# Altium footprint library resistor-dil.PCBLIB: 22 footprints (part 1 of 2)
Each footprint in its own frame and in the unit in brackets; x right, y up, seen from the top. Pads: shape width x height; smd on the part's side, far side on the other; paste and mask are expansions set on the pad; w line width, h text height; cw(c..) or ccw(c..) is an arc to the next point about the centre after c.
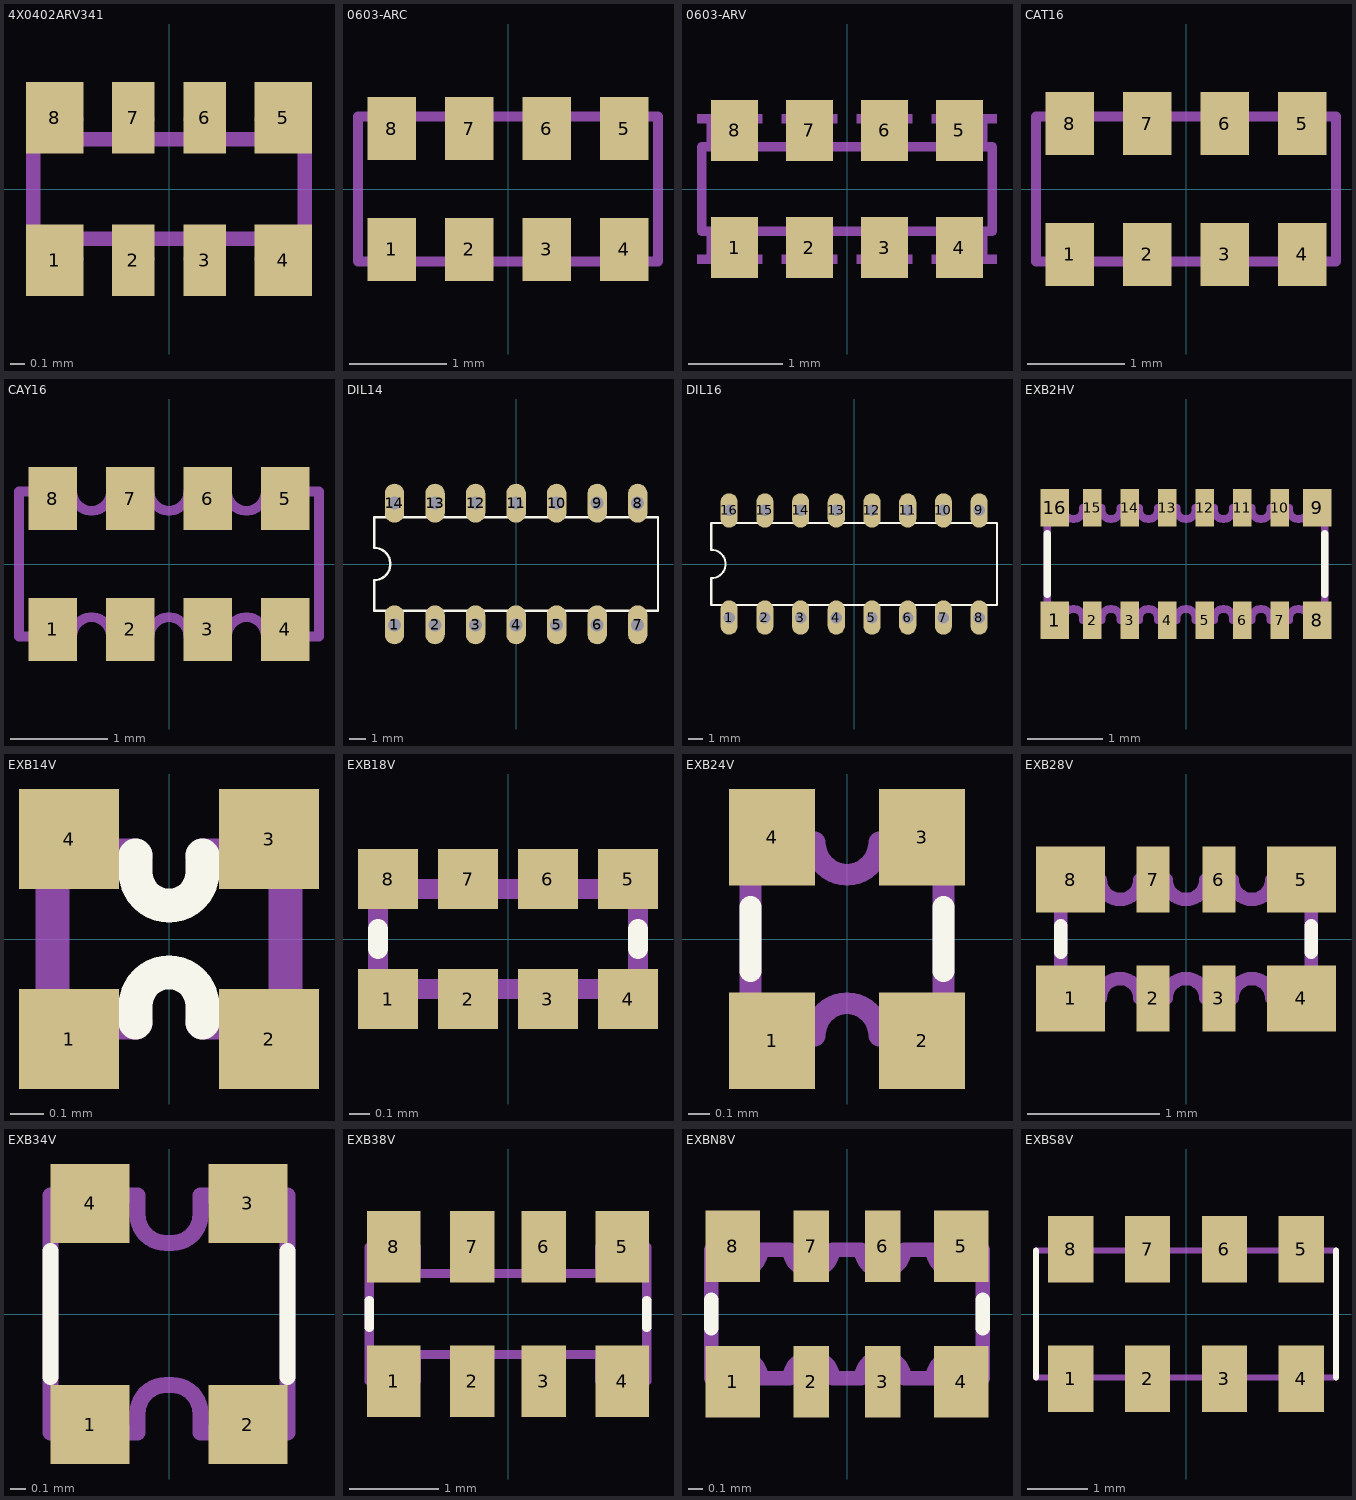
[diagram p0: the footprints below, top view; thin cyan lines are the x and y axes]

## 4X0402ARV341 [mil]
pads (8):
  rect 15.75x19.69 smd: 1(-31.5,-19.69) 4(31.5,-19.69) 5(31.5,19.69) 8(-31.5,19.69)
  rect 11.81x19.69 smd: 2(-9.84,-19.69) 3(9.84,-19.69) 6(9.84,19.69) 7(-9.84,19.69)
Mechanical 16:
  rectangle: -15.75,18.7 -3.94,19.69
  rectangle: -12.8,15.75 -6.89,18.7
  rectangle: 3.94,18.7 15.75,19.69
  rectangle: 6.89,15.75 12.8,18.7
  rectangle: 23.62,18.7 39.37,19.69
  rectangle: 26.57,15.75 32.48,18.7
  region: 39.37,-18.7 23.62,-18.7 23.62,-19.69 39.37,-19.69
  region: 32.48,-15.75 26.57,-15.75 26.57,-18.7 32.48,-18.7
  region: 15.75,-18.7 3.94,-18.7 3.94,-19.69 15.75,-19.69
  region: 12.8,-15.75 6.89,-15.75 6.89,-18.7 12.8,-18.7
  region: -3.94,-18.7 -15.75,-18.7 -15.75,-19.69 -3.94,-19.69
  region: -6.89,-15.75 -12.8,-15.75 -12.8,-18.7 -6.89,-18.7
  region: -23.62,-18.7 -39.37,-18.7 -39.37,-19.69 -23.62,-19.69
  region: -26.57,-15.75 -32.48,-15.75 -32.48,-18.7 -26.57,-18.7
  rectangle: -39.37,18.7 -23.62,19.69
  rectangle: -32.48,15.75 -26.57,18.7
  lines w4: -37.4,-13.78 37.4,-13.78 37.4,13.78 -37.4,13.78 -37.4,-13.78

## 0603-ARC [mm]
pads (8):
  rect 0.5x0.65 smd: 1(-1.2,-0.625) 2(-0.4,-0.625) 3(0.4,-0.625) 4(1.2,-0.625) 5(1.2,0.625) 6(0.4,0.625) 7(-0.4,0.625) 8(-1.2,0.625)
Mechanical 16:
  lines w0.102: -1.55,-0.75 -1.325,-0.75 cw(c-1.188,-0.75) -1.05,-0.75 -0.525,-0.75 cw(c-0.387,-0.75) -0.25,-0.75 0.275,-0.75 cw(c0.412,-0.75) 0.55,-0.75 1.075,-0.75 cw(c1.212,-0.75) 1.35,-0.75 1.55,-0.75 1.55,0.75 1.325,0.75 cw(c1.188,0.75) 1.05,0.75 0.525,0.75 cw(c0.387,0.75) 0.25,0.75 -0.275,0.75 cw(c-0.412,0.75) -0.55,0.75 -1.075,0.75 cw(c-1.212,0.75) -1.35,0.75 -1.55,0.75 -1.55,-0.75

## 0603-ARV [mm]
pads (8):
  rect 0.5x0.65 smd: 1(-1.2,-0.625) 2(-0.4,-0.625) 3(0.4,-0.625) 4(1.2,-0.625) 5(1.2,0.625) 6(0.4,0.625) 7(-0.4,0.625) 8(-1.2,0.625)
Mechanical 16:
  rectangle: -1.6,0.7 -0.9,0.8
  rectangle: -0.7,0.7 -0.1,0.8
  rectangle: 0.1,0.7 0.7,0.8
  rectangle: 0.9,0.7 1.6,0.8
  rectangle: -1.5,0.5 -0.95,0.7
  rectangle: -0.65,0.5 -0.15,0.7
  rectangle: 0.15,0.5 0.65,0.7
  rectangle: 0.95,0.5 1.5,0.7
  region: 1.6,-0.7 0.9,-0.7 0.9,-0.8 1.6,-0.8
  region: 0.7,-0.7 0.1,-0.7 0.1,-0.8 0.7,-0.8
  region: -0.1,-0.7 -0.7,-0.7 -0.7,-0.8 -0.1,-0.8
  region: -0.9,-0.7 -1.6,-0.7 -1.6,-0.8 -0.9,-0.8
  region: 1.5,-0.5 0.95,-0.5 0.95,-0.7 1.5,-0.7
  region: 0.65,-0.5 0.15,-0.5 0.15,-0.7 0.65,-0.7
  region: -0.15,-0.5 -0.65,-0.5 -0.65,-0.7 -0.15,-0.7
  region: -0.95,-0.5 -1.5,-0.5 -1.5,-0.7 -0.95,-0.7
  lines w0.102: -1.55,-0.45 -1.55,0.45 1.55,0.45 1.55,-0.45 -1.55,-0.45

## CAT16 [mm]
pads (8):
  rect 0.5x0.65 smd: 1(-1.2,-0.675) 2(-0.4,-0.675) 3(0.4,-0.675) 4(1.2,-0.675) 5(1.2,0.675) 6(0.4,0.675) 7(-0.4,0.675) 8(-1.2,0.675)
Mechanical 16:
  lines w0.102: -1.55,-0.75 -1.55,0.75 -1.4,0.75 ccw(c-1.2,0.75) -1,0.75 -0.6,0.75 ccw(c-0.4,0.75) -0.2,0.75 0.2,0.75 ccw(c0.4,0.75) 0.6,0.75 1,0.75 ccw(c1.2,0.75) 1.4,0.75 1.55,0.75 1.55,-0.75 1.4,-0.75 ccw(c1.2,-0.75) 1,-0.75 0.6,-0.75 ccw(c0.4,-0.75) 0.2,-0.75 -0.2,-0.75 ccw(c-0.4,-0.75) -0.6,-0.75 -1,-0.75 ccw(c-1.2,-0.75) -1.4,-0.75 -1.55,-0.75

## CAY16 [mm]
pads (8):
  rect 0.5x0.65 smd: 1(-1.2,-0.675) 2(-0.4,-0.675) 3(0.4,-0.675) 4(1.2,-0.675) 5(1.2,0.675) 6(0.4,0.675) 7(-0.4,0.675) 8(-1.2,0.675)
Mechanical 16:
  lines w0.102: -1.55,-0.75 -1.55,0.75 -1,0.75 ccw(c-0.8,0.75) -0.6,0.75 -0.2,0.75 ccw(c0,0.75) 0.2,0.75 0.6,0.75 ccw(c0.8,0.75) 1,0.75 1.55,0.75 1.55,-0.75 1,-0.75 ccw(c0.8,-0.75) 0.6,-0.75 0.2,-0.75 ccw(c0,-0.75) -0.2,-0.75 -0.6,-0.75 ccw(c-0.8,-0.75) -1,-0.75 -1.55,-0.75

## DIL14 [mil]
pads (14):
  oval 48x96 hole 32: 1(-300,-150) 2(-200,-150) 3(-100,-150) 4(0,-150) 5(100,-150) 6(200,-150) 7(300,-150) 8(300,150) 9(200,150) 10(100,150) 11(0,150) 12(-100,150) 13(-200,150) 14(-300,150)
Top Overlay:
  lines w6: -350,-115 350,-115 350,115 -350,115 -350,40 cw(c-350,0) -350,-40 -350,-115

## DIL16 [mil]
pads (16):
  oval 48x96 hole 32: 1(-350,-150) 2(-250,-150) 3(-150,-150) 4(-50,-150) 5(50,-150) 6(150,-150) 7(250,-150) 8(350,-150) 9(350,150) 10(250,150) 11(150,150) 12(50,150) 13(-50,150) 14(-150,150) 15(-250,150) 16(-350,150)
Top Overlay:
  lines w6: -400,-115 400,-115 400,115 -400,115 -400,40 cw(c-400,0) -400,-40 -400,-115

## EXB2HV [mm]
pads (16):
  rect 0.38x0.5 smd: 1(-1.75,-0.75) 8(1.75,-0.75) 9(1.75,0.75) 16(-1.75,0.75)
  rect 0.25x0.5 smd: 2(-1.25,-0.75) 3(-0.75,-0.75) 4(-0.25,-0.75) 5(0.25,-0.75) 6(0.75,-0.75) 7(1.25,-0.75) 10(1.25,0.75) 11(0.75,0.75) 12(0.25,0.75) 13(-0.25,0.75) 14(-0.75,0.75) 15(-1.25,0.75)
Top Overlay:
  lines w0.102: -1.85,-0.4 -1.85,0.4 ; 1.85,-0.4 1.85,0.4
Mechanical 16:
  lines w0.102: -1.85,-0.75 -1.625,-0.75 -1.625,-0.72 cw(c-1.505,-0.72) -1.505,-0.6 -1.495,-0.6 cw(c-1.495,-0.72) -1.375,-0.72 -1.375,-0.75 -1.125,-0.75 -1.125,-0.72 cw(c-1.005,-0.72) -1.005,-0.6 -0.995,-0.6 cw(c-0.995,-0.72) -0.875,-0.72 -0.875,-0.75 -0.625,-0.75 -0.625,-0.72 cw(c-0.505,-0.72) -0.505,-0.6 -0.495,-0.6 cw(c-0.495,-0.72) -0.375,-0.72 -0.375,-0.75 -0.125,-0.75 -0.125,-0.72 cw(c-0.005,-0.72) -0.005,-0.6 0.005,-0.6 cw(c0.005,-0.72) 0.125,-0.72 0.125,-0.75 0.375,-0.75 0.375,-0.72 cw(c0.495,-0.72) 0.495,-0.6 0.505,-0.6 cw(c0.505,-0.72) 0.625,-0.72 0.625,-0.75 0.875,-0.75 0.875,-0.72 cw(c0.995,-0.72) 0.995,-0.6 1.005,-0.6 cw(c1.005,-0.72) 1.125,-0.72 1.125,-0.75 1.375,-0.75 1.375,-0.72 cw(c1.495,-0.72) 1.495,-0.6 1.505,-0.6 cw(c1.505,-0.72) 1.625,-0.72 1.625,-0.75 1.85,-0.75 1.85,0.75 1.625,0.75 1.625,0.72 cw(c1.505,0.72) 1.505,0.6 1.495,0.6 cw(c1.495,0.72) 1.375,0.72 1.375,0.75 1.125,0.75 1.125,0.72 cw(c1.005,0.72) 1.005,0.6 0.995,0.6 cw(c0.995,0.72) 0.875,0.72 0.875,0.75 0.625,0.75 0.625,0.72 cw(c0.505,0.72) 0.505,0.6 0.495,0.6 cw(c0.495,0.72) 0.375,0.72 0.375,0.75 0.125,0.75 0.125,0.72 cw(c0.005,0.72) 0.005,0.6 -0.005,0.6 cw(c-0.005,0.72) -0.125,0.72 -0.125,0.75 -0.375,0.75 -0.375,0.72 cw(c-0.495,0.72) -0.495,0.6 -0.505,0.6 cw(c-0.505,0.72) -0.625,0.72 -0.625,0.75 -0.875,0.75 -0.875,0.72 cw(c-0.995,0.72) -0.995,0.6 -1.005,0.6 cw(c-1.005,0.72) -1.125,0.72 -1.125,0.75 -1.375,0.75 -1.375,0.72 cw(c-1.495,0.72) -1.495,0.6 -1.505,0.6 cw(c-1.505,0.72) -1.625,0.72 -1.625,0.75 -1.85,0.75 -1.85,-0.75

## EXB14V [mm]
pads (4):
  rect 0.3x0.3 smd: 1(-0.3,-0.3) 2(0.3,-0.3) 3(0.3,0.3) 4(-0.3,0.3)
Top Overlay:
  lines w0.102: -0.1,-0.25 -0.1,-0.2 cw(c0,-0.2) 0,-0.1 cw(c0,-0.2) 0.1,-0.2 0.1,-0.25 ; -0.1,0.25 -0.1,0.2 ccw(c0,0.2) 0,0.1 ccw(c0,0.2) 0.1,0.2 0.1,0.25
Mechanical 16:
  lines w0.102: -0.1,-0.25 -0.35,-0.25 -0.35,0.25 -0.1,0.25 ; 0.1,-0.25 0.35,-0.25 0.35,0.25 0.1,0.25

## EXB18V [mm]
pads (8):
  rect 0.3x0.3 smd: 1(-0.6,-0.3) 2(-0.2,-0.3) 3(0.2,-0.3) 4(0.6,-0.3) 5(0.6,0.3) 6(0.2,0.3) 7(-0.2,0.3) 8(-0.6,0.3)
Top Overlay:
  lines w0.102: -0.65,-0.05 -0.65,0.05 ; 0.65,-0.05 0.65,0.05
Mechanical 16:
  lines w0.102: -0.65,-0.25 0.65,-0.25 0.65,0.25 -0.65,0.25 -0.65,-0.25

## EXB24V [mm]
pads (4):
  rect 0.4x0.45 smd: 1(-0.35,-0.475) 2(0.35,-0.475) 3(0.35,0.475) 4(-0.35,0.475)
Top Overlay:
  lines w0.102: -0.45,-0.15 -0.45,0.15 ; 0.45,-0.15 0.45,0.15
Mechanical 16:
  lines w0.102: -0.45,-0.45 -0.15,-0.45 cw(c0,-0.45) 0,-0.3 cw(c0,-0.45) 0.15,-0.45 0.45,-0.45 0.45,0.45 0.15,0.45 cw(c0,0.45) 0,0.3 cw(c0,0.45) -0.15,0.45 -0.45,0.45 -0.45,-0.45

## EXB28V [mm]
pads (8):
  rect 0.525x0.5 smd: 1(-0.875,-0.45) 4(0.875,-0.45) 5(0.875,0.45) 8(-0.875,0.45)
  rect 0.25x0.5 smd: 2(-0.25,-0.45) 3(0.25,-0.45) 6(0.25,0.45) 7(-0.25,0.45)
Top Overlay:
  lines w0.102: -0.95,-0.1 -0.95,0.1 ; 0.95,-0.1 0.95,0.1
Mechanical 16:
  lines w0.102: -0.95,-0.45 -0.65,-0.45 cw(c-0.5,-0.45) -0.5,-0.3 cw(c-0.5,-0.45) -0.35,-0.45 -0.15,-0.45 cw(c0,-0.45) 0,-0.3 cw(c0,-0.45) 0.15,-0.45 0.35,-0.45 cw(c0.5,-0.45) 0.5,-0.3 cw(c0.5,-0.45) 0.65,-0.45 0.95,-0.45 0.95,0.45 0.65,0.45 cw(c0.5,0.45) 0.5,0.3 cw(c0.5,0.45) 0.35,0.45 0.15,0.45 cw(c0,0.45) 0,0.3 cw(c0,0.45) -0.15,0.45 -0.35,0.45 cw(c-0.5,0.45) -0.5,0.3 cw(c-0.5,0.45) -0.65,0.45 -0.95,0.45 -0.95,-0.45

## EXB34V [mm]
pads (4):
  rect 0.5x0.5 smd: 1(-0.5,-0.7) 2(0.5,-0.7) 3(0.5,0.7) 4(-0.5,0.7)
Top Overlay:
  lines w0.102: -0.75,-0.4 -0.75,0.4 ; 0.75,-0.4 0.75,0.4
Mechanical 16:
  lines w0.102: -0.75,-0.75 -0.2,-0.75 -0.2,-0.63 cw(c-0.02,-0.63) -0.02,-0.45 0.02,-0.45 cw(c0.02,-0.63) 0.2,-0.63 0.2,-0.75 0.75,-0.75 0.75,0.75 0.2,0.75 0.2,0.63 cw(c0.02,0.63) 0.02,0.45 -0.02,0.45 cw(c-0.02,0.63) -0.2,0.63 -0.2,0.75 -0.75,0.75 -0.75,-0.75

## EXB38V [mil]
pads (8):
  rect 23.62x31.5 smd: 1(-50.2,-29.53) 4(50.2,-29.53) 5(50.2,29.53) 8(-50.2,29.53)
  rect 19.69x31.5 smd: 2(-15.75,-29.53) 3(15.75,-29.53) 6(15.75,29.53) 7(-15.75,29.53)
Top Overlay:
  lines w4: -61.02,-5.91 -61.02,5.91 ; 61.02,-5.91 61.02,5.91
Mechanical 16:
  lines w4: -61.02,-29.53 -61.02,29.53 -40.35,29.53 -40.35,17.72 -22.64,17.72 -22.64,29.53 -8.86,29.53 -8.86,17.72 8.86,17.72 8.86,29.53 22.64,29.53 22.64,17.72 40.35,17.72 40.35,29.53 61.02,29.53 61.02,-29.53 40.35,-29.53 40.35,-17.72 22.64,-17.72 22.64,-29.53 8.86,-29.53 8.86,-17.72 -8.86,-17.72 -8.86,-29.53 -22.64,-29.53 -22.64,-17.72 -40.35,-17.72 -40.35,-29.53 -61.02,-29.53

## EXBN8V [mm]
pads (8):
  rect 0.38x0.5 smd: 1(-0.8,-0.475) 4(0.8,-0.475) 5(0.8,0.475) 8(-0.8,0.475)
  rect 0.25x0.5 smd: 2(-0.25,-0.475) 3(0.25,-0.475) 6(0.25,0.475) 7(-0.25,0.475)
Top Overlay:
  lines w0.102: -0.95,-0.1 -0.95,0.1 ; 0.95,-0.1 0.95,0.1
Mechanical 16:
  lines w0.102: -0.95,-0.45 -0.9,-0.45 cw(c-0.75,-0.45) -0.75,-0.3 cw(c-0.75,-0.45) -0.6,-0.45 -0.4,-0.45 cw(c-0.25,-0.45) -0.25,-0.3 cw(c-0.25,-0.45) -0.1,-0.45 0.1,-0.45 cw(c0.25,-0.45) 0.25,-0.3 cw(c0.25,-0.45) 0.4,-0.45 0.6,-0.45 cw(c0.75,-0.45) 0.75,-0.3 cw(c0.75,-0.45) 0.9,-0.45 0.95,-0.45 0.95,0.45 0.9,0.45 cw(c0.75,0.45) 0.75,0.3 cw(c0.75,0.45) 0.6,0.45 0.4,0.45 cw(c0.25,0.45) 0.25,0.3 cw(c0.25,0.45) 0.1,0.45 -0.1,0.45 cw(c-0.25,0.45) -0.25,0.3 cw(c-0.25,0.45) -0.4,0.45 -0.6,0.45 cw(c-0.75,0.45) -0.75,0.3 cw(c-0.75,0.45) -0.9,0.45 -0.95,0.45 -0.95,-0.45

## EXBS8V [mm]
pads (8):
  rect 0.75x1.1 smd: 1(-1.905,-1.07) 2(-0.635,-1.07) 3(0.635,-1.07) 4(1.905,-1.07) 5(1.905,1.07) 6(0.635,1.07) 7(-0.635,1.07) 8(-1.905,1.07)
Top Overlay:
  lines w0.102: -2.475,-1.05 -2.475,1.05 ; 2.475,-1.05 2.475,1.05
Mechanical 16:
  lines w0.102: -2.475,-1.05 -2.05,-1.05 cw(c-1.9,-1.05) -1.9,-0.9 cw(c-1.9,-1.05) -1.75,-1.05 -0.8,-1.05 cw(c-0.65,-1.05) -0.65,-0.9 cw(c-0.65,-1.05) -0.5,-1.05 0.5,-1.05 cw(c0.65,-1.05) 0.65,-0.9 cw(c0.65,-1.05) 0.8,-1.05 1.75,-1.05 cw(c1.9,-1.05) 1.9,-0.9 cw(c1.9,-1.05) 2.05,-1.05 2.475,-1.05 ; -2.475,1.05 -2.05,1.05 ccw(c-1.9,1.05) -1.9,0.9 ccw(c-1.9,1.05) -1.75,1.05 -0.8,1.05 ccw(c-0.65,1.05) -0.65,0.9 ccw(c-0.65,1.05) -0.5,1.05 0.5,1.05 ccw(c0.65,1.05) 0.65,0.9 ccw(c0.65,1.05) 0.8,1.05 1.75,1.05 ccw(c1.9,1.05) 1.9,0.9 ccw(c1.9,1.05) 2.05,1.05 2.475,1.05